# EAGLE library part WIRE2BOARD_1X6 (library dsantoro-conn)
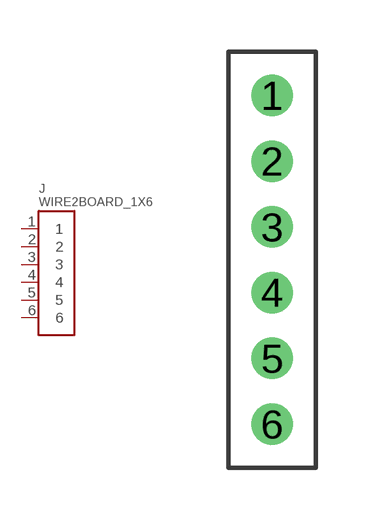
[diagram p0: symbol with the pads of WIRE2BOARD_1X6; footprint WIRE2BOARD_1X6]

Designator prefix J

## WIRE2BOARD_1X6  [WIRE2BOARD_1X6]
1  1
2  2
3  3
4  4
5  5
6  6

## Footprint WIRE2BOARD_1X6 (pad centres in mm)
drill 0.7: 1 0,0; 2 0,-1.905; 3 0,-3.81; 4 0,-5.715; 5 0,-7.62; 6 0,-9.525